# EAGLE library part LM5088 (library texas)
Non-Synchronous Buck Controller Wide Input Range, 4.5 V to 75 V.
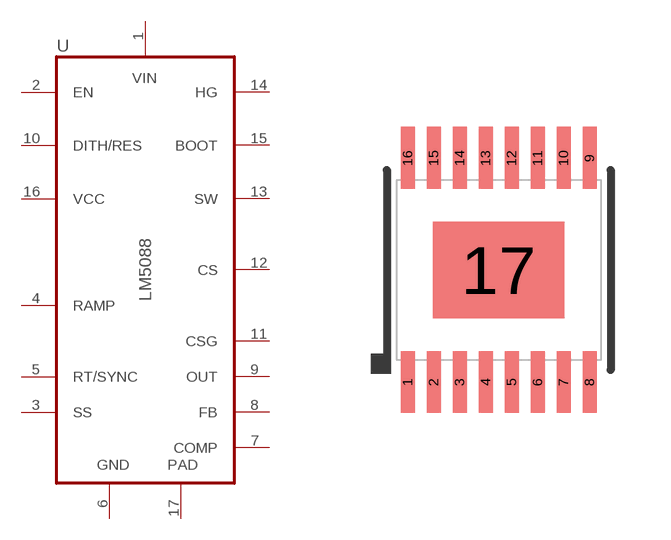
[diagram p106: symbol with the pads of HTSSOP16; footprint HTSSOP16]

Designator prefix U

## LM5088PWP  [HTSSOP16]
1  VIN  in
2  EN  in
3  SS  in
4  RAMP  in
5  RT/SYNC  in
6  GND  in
7  COMP  in
8  FB  in
9  OUT  in
10  DITH/RES  in
11  CSG  in
12  CS  in
13  SW  out
14  HG  out
15  BOOT  in
16  VCC  out
17  PAD  in

## Footprint HTSSOP16 (pad centres in mm)
HTSSOP14 PowerPAD (R-PDSO-G16) pitch 0.635 mm, body 4.5 mm x 5.1 mm
smd 0.35 x 1.55: 1 -2.275,-2.8; 2 -1.625,-2.8; 3 -0.975,-2.8; 4 -0.325,-2.8; 5 0.325,-2.8; 6 0.975,-2.8; 7 1.625,-2.8; 8 2.275,-2.8; 9 2.275,2.8; 10 1.625,2.8; 11 0.975,2.8; 12 0.325,2.8; 13 -0.325,2.8; 14 -0.975,2.8; 15 -1.625,2.8; 16 -2.275,2.8
smd 3.29 x 2.41: 17 0,0